# Altium schematic symbol library Cornix_Library.SchLib: 6 symbols
Pins are listed as number, name and electrical type; pins without a type are passive.

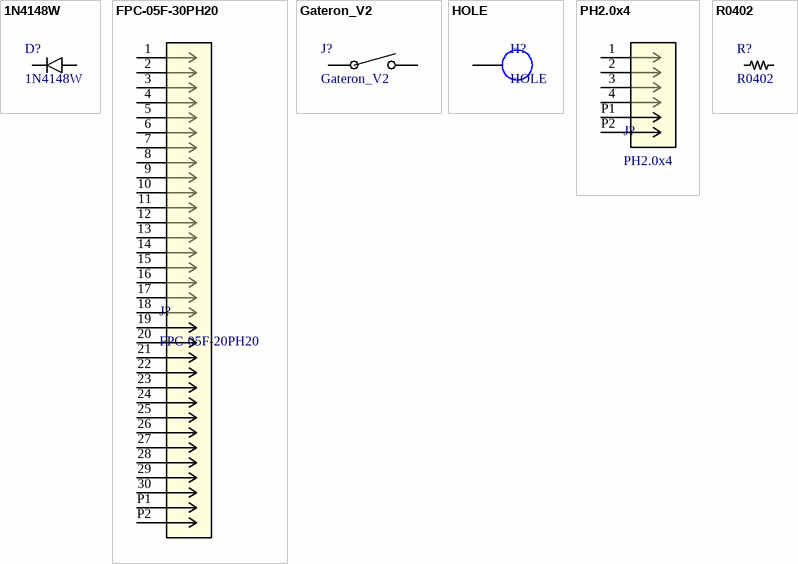
[diagram p0: symbols 1N4148W to R0402]

## 1N4148W
designator D?
Small Signal Diode
footprint SOD123_DIO
pins: A, K

## FPC-05F-30PH20
designator J?, comment FPC-05F-20PH20
30 Pin 0.5 Pitch FPC connector
footprint FPC-05F-30PH20
pins: 1, 2, 3, 4, 5, 6, 7, 8, 9, 10, 11, 12, 13, 14, 15, 16, 17, 18, 19, 20, 21, 22, 23, 24, 25, 26, 27, 28, 29, 30, P1, P2

## Gateron_V2
designator J?
Gateron hotswap socket V2.0
pins: 1, 2

## HOLE
designator H?
footprint M2.5_HOLE
pins: 1

## PH2.0x4
designator J?
PH2.0 4Pin Connector (vertical SMD)
footprint PH2.0x4P
pins: 1, 2, 3, 4, P1, P2

## R0402
designator R?
CPF 0402 RL; Manufacturer_Name: TE Connectivity; Manufacturer_Part_Number: CPF0402B33RE1; Copyright: Copyright (C) 2025 Ultra Librarian. All rights reserved.; Datasheet: https://www.te.com/commerce/DocumentDelivery/DDEController?Action=srchrtrv&DocNm=1773200&DocType=Data+Sheet&DocLang=English&PartCntxt=1-1879208-3&DocFormat=pdf
footprint RES0402_CPF_TYCO_TYC
pins: 1, 2